# EAGLE library part POT_TKD_CP2500 (library wheat)
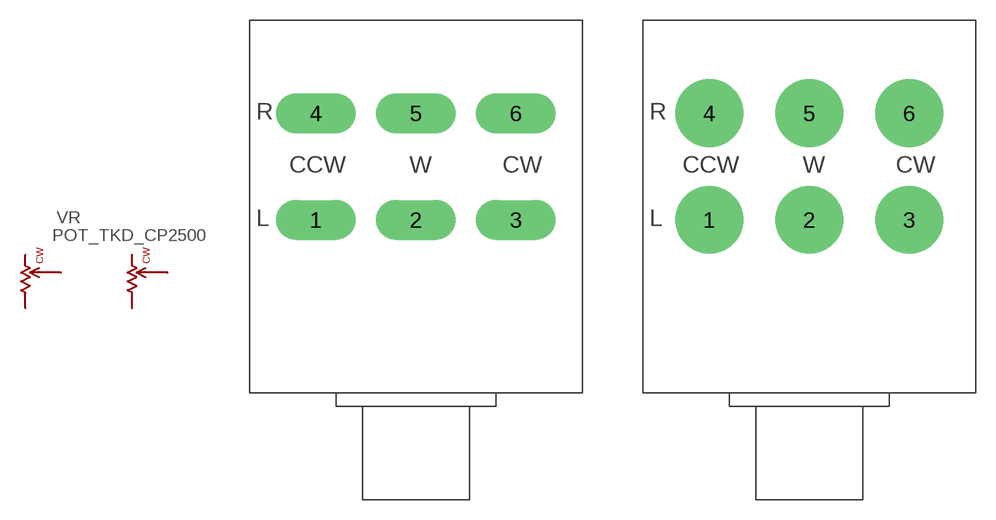
[diagram p160: symbol with the pads of POT_TKD_CP2500; footprints POT_TKD_CP2500, POT_TKD_CP2500_RH]

Designator prefix VR

## POT_TKD_CP2500  [POT_TKD_CP2500]
1  CCW1  pas
2  W1  pas
3  CW1  pas
4  CCW2  pas
5  W2  pas
6  CW2  pas

## POT_TKD_CP2500R  [POT_TKD_CP2500_RH]
Pads as for POT_TKD_CP2500

## Footprint POT_TKD_CP2500 (pad centres in mm)
drill 2 pad 3 long: 1 -7.5,14; 2 0,14; 3 7.5,14; 4 -7.5,22; 5 0,22; 6 7.5,22

## Footprint POT_TKD_CP2500_RH (pad centres in mm)
drill 3.251 pad 5.08: 1 -7.5,14; 2 0,14; 3 7.5,14; 4 -7.5,22; 5 0,22; 6 7.5,22